# Altium schematic symbol library TPS79630DCQR.SchLib: 1 symbol
Pins are listed as number, name and electrical type; pins without a type are passive.

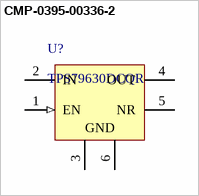
[diagram p0: symbol CMP-0395-00336-2]

## CMP-0395-00336-2
designator U?, comment TPS79630DCQR
Single Output High PSRR LDO, 1 A, Fixed 3 V Output, 2.7 to 5.5 V Input, 6-pin SOT-223 (DCQ), -40 to 125 degC, Green (RoHS & no Sb/Br); Manufacturer: Texas Instruments; Fixed Output Options(V): 3; Vdo(Typ)(mV): 250; Iout(Max)(A): 1; Vin(Min)(V): 2.7; SubFamily: Single Channel LDO; Accuracy(%): 2; Vin(Max)(V): 5.5; Iq(Typ)(mA): 0.26; ComponentLink1URL: http://www.ti.com/; ComponentLink1Description: Manufacturer URL; ComponentLink3URL: http://www.ti.com/litv/pdf/mpds098c; Mounting Technology: Surface Mount; Vout Adj(Max)(V): 3; Vout Adj(Min)(V): 3; ComponentLink2Description: Datasheet; ComponentLink3Description: Package Specification; DatasheetVersion: SLVS351N; PackageVersion: 4202109/D; ComponentLink2URL: http://www.ti.com/general/docs/lit/getliterature.tsp?genericPartNumber=TPS79630&fileType=pdf; Eco-Plan: Green (RoHS & no Sb/Br); PackageReference: DCQ0006A; PackageDescription: 6-Pin Plastic Small Outline, Body 3.5 x 6.5 mm, Pitch 1.27 mm; PartNumber: TPS79630DCQR
footprint DCQ0006A_L (SOT223, 6-Leads, Body 6.55x3.55mm, Pitch 1.27mm, IPC High Density)
footprint DCQ0006A_N (SOT223, 6-Leads, Body 6.55x3.55mm, Pitch 1.27mm, IPC Medium Density)
footprint DCQ0006A_M (SOT223, 6-Leads, Body 6.55x3.55mm, Pitch 1.27mm, IPC Low Density)
pins: 1 EN (in) "The EN terminal is an input that enables or shuts down the device. When EN is a logic high, the device is enabled. When the device is a logic low, the device is in shutdown mode.", 2 IN (power) "Unregulated input to the device.", 3 GND (power) "Regulator ground", 4 OUT (power) "Regulator output", 5 NR "Connecting an external capacitor to this pin bypasses noise generated by the internal bandgap, which improves power-supply rejection and reduces output noise.", 6 GND (power) "Regulator ground"